# Altium footprint library Source Selector.PcbLib: 20 footprints (part 2 of 2)
Each footprint in its own frame and in the unit in brackets; x right, y up, seen from the top. Pads: shape width x height; smd on the part's side, far side on the other; paste and mask are expansions set on the pad; w line width, h text height; cw(c..) or ccw(c..) is an arc to the next point about the centre after c.
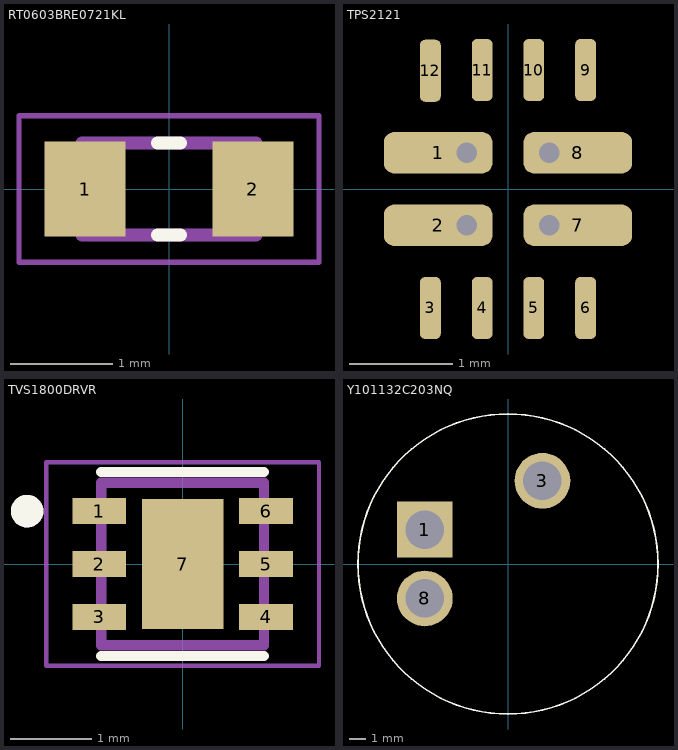
[diagram p1: the footprints below, top view; thin cyan lines are the x and y axes]

## RT0603BRE0721KL [mm]
pads (2):
  rect 0.79x0.93 smd: 1(-0.82,0) 2(0.82,0)
Top Overlay:
  lines w0.127: -0.11,-0.45 0.11,-0.45 ; -0.11,0.45 0.11,0.45
Mechanical 13:
  lines w0.127: -0.85,-0.45 -0.85,0.45 0.85,0.45 0.85,-0.45 -0.85,-0.45
Mechanical 15:
  lines w0.05: -1.465,-0.715 -1.465,0.715 1.465,0.715 1.465,-0.715 -1.465,-0.715
3D body "step_temp.STEP": height 0.55, standoff 0, extent -0.8,-0.4 0.8,0.4

## TPS2121 [mm] "Power Mux"
pads (12):
  rrect50% 1.05x0.4 all layers, no hole mask+0.05: 1(-0.675,0.35) 2(-0.675,-0.35) 7(0.675,-0.35) 8(0.675,0.35)
  rrect50% 0.2x0.6 all layers, no hole mask+0.05: 3(-0.75,-1.15) 4(-0.25,-1.15) 5(0.25,-1.15) 6(0.75,-1.15) 9(0.75,1.15) 10(0.25,1.15) 11(-0.25,1.15) 12(-0.75,1.143)
via 0.4,-0.35 diameter 0.2 hole 0.2
via -0.4,-0.35 diameter 0.2 hole 0.2
via 0.4,0.35 diameter 0.2 hole 0.2
via -0.4,0.35 diameter 0.2 hole 0.2

## TVS1800DRVR [mm]
pads (7):
  rect 0.66x0.32 smd: 1(-1.025,0.65) 2(-1.025,0) 3(-1.025,-0.65) 4(1.025,-0.65) 5(1.025,0) 6(1.025,0.65)
  rect 1x1.6 smd paste-2: 7(0,0)
Top Overlay:
  circle w0.2: c-1.91,0.65 r0.1
  lines w0.127: -1,-1.13 1,-1.13 ; -1,1.13 1,1.13
Top Paste:
  region: 0.316,-0.506 -0.316,-0.506 -0.316,0.506 0.316,0.506
Mechanical 13:
  circle w0.2: c-1.91,0.65 r0.1
  lines w0.127: -1,-1 1,-1 1,1 -1,1 -1,-1
Mechanical 15:
  lines w0.05: -1.675,-1.25 1.675,-1.25 1.675,1.25 -1.675,1.25 -1.675,-1.25
3D body "step_temp.STEP": height 0.8, standoff 0, extent -1,-1 1,1

## Y101132C203NQ [mil] "SWITCH KEYLOCK 2POS SPDT 4A 125V"
height 1125.98
pads (3):
  rect 130x130 hole 90 mask+1.97: 1(-194.01,80.36)
  round 130 hole 90 mask+1.97: 3(80.36,194.01) 8(-194.01,-80.36)
Top Overlay:
  circle w3.94: c0,0 r350
3D body "battery key.stp": height 1148.04, standoff -217, extent -457.37,-457.49 457.38,457.51